# EAGLE library part LIS3DSH (library Misaka-IC)
Three-axis accelerometer Supply voltage: 1.71...3.6V Indepedent IOs supply(1.8V) and supply voltage compatible +/-(2,4,6,8,16)g selectable full scale Interfaces: I2C and SPI 16-bit data output 10000g high shock survivability
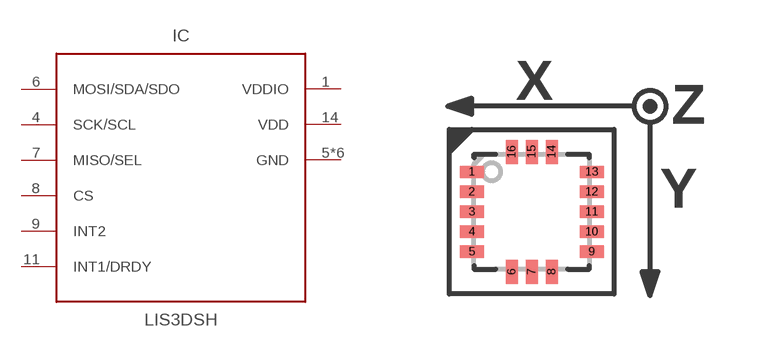
[diagram p10: symbol with the pads of LGA-16(LIS3DSH); footprint LGA-16(LIS3DSH)]

Designator prefix IC

## LIS3DSH  [LGA-16(LIS3DSH)]
1  VDDIO  pwr
4  SCK/SCL
5  GND  pwr
6  MOSI/SDA/SDO
7  MISO/SEL
8  CS
9  INT2
10  GND  pwr
11  INT1/DRDY
12  GND  pwr
13  GND  pwr
14  VDD  pwr
15  GND  pwr
16  GND  pwr

## Footprint LGA-16(LIS3DSH) (pad centres in mm)
smd 0.6 x 0.3: 1 -1.5,1; 2 -1.5,0.5; 3 -1.5,0; 4 -1.5,-0.5; 5 -1.5,-1; 9 1.5,-1; 10 1.5,-0.5; 11 1.5,0; 12 1.5,0.5; 13 1.5,1
smd 0.3 x 0.6: 6 -0.5,-1.5; 7 0,-1.5; 8 0.5,-1.5; 14 0.5,1.5; 15 0,1.5; 16 -0.5,1.5